# Altium schematic symbol library charger.SchLib: 1 symbol
Pins are listed as number, name and electrical type; pins without a type are passive.

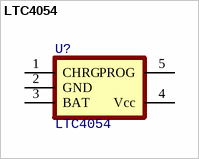
[diagram p0: symbol LTC4054]

## LTC4054
designator U?
LiPo Charger
footprint _SOT23-5
pins: 1 CHRG, 2 GND, 3 BAT, 4 Vcc, 5 PROG